# EAGLE library part UB2-DPSINGLE (library SKAARHOJ)
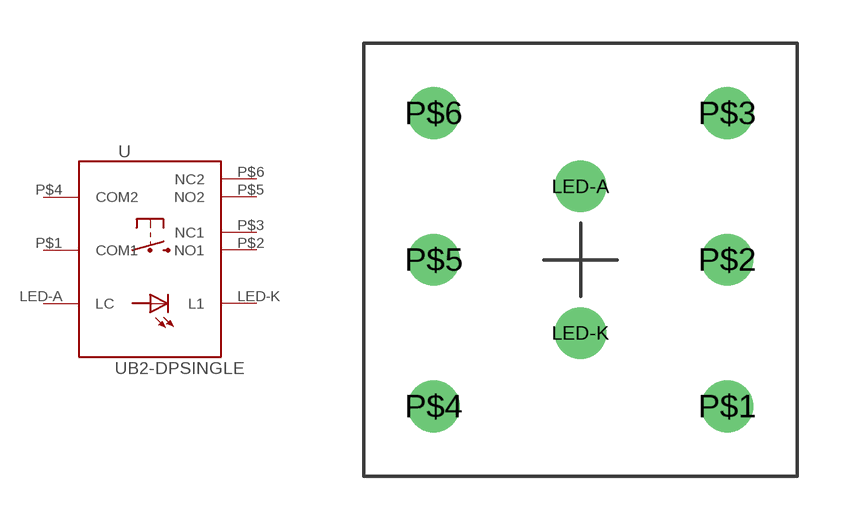
[diagram p32: symbol with the pads of UB2-DPSINGLE; footprint UB2-DPSINGLE]

Designator prefix -

## UB2-DPSINGLE  [UB2-DPSINGLE]
LED-A  LC
LED-K  L1
P$1  COM1
P$2  NO1
P$3  NC1
P$4  COM2
P$5  NO2
P$6  NC2

## Footprint UB2-DPSINGLE (pad centres in mm)
drill 1.194: LED-A 0,2.54; LED-K 0,-2.54; P$1 5.08,-5.08; P$2 5.08,0; P$3 5.08,5.08; P$4 -5.08,-5.08; P$5 -5.08,0; P$6 -5.08,5.08